# Altium schematic symbol library Transistor.SchLib: 34 symbols
Pins are listed as number, name and electrical type; pins without a type are passive.

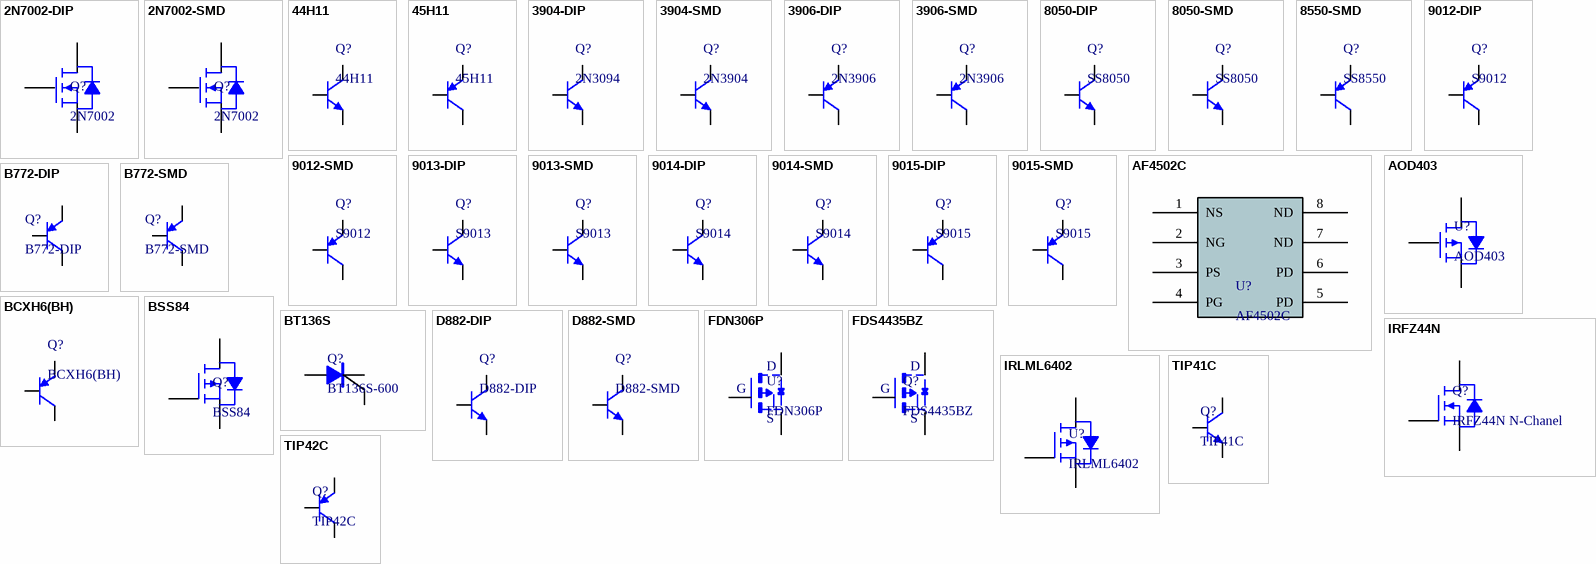
[diagram p0: symbols 2N7002-DIP to TIP42C]

## 2N7002-DIP
designator Q?, comment 2N7002
N-Channel Enhancement Mode Field Effect Transistor
footprint TO92A (92�����)
footprint TO92B (92�����)
pins: 1 S, 2 G, 3 D

## 2N7002-SMD
designator Q?, comment 2N7002
N-Channel Enhancement Mode Field Effect Transistor
footprint SOT23-3L (3x1.3x1mm(�����))
footprint SOT23-3M (3x1.3x1mm(�����))
footprint SOT23-3N (3x1.3x1mm(�����))
pins: 1 G, 2 S, 3 D

## 44H11
designator Q?
Complementary power-NPN; BOM名称: 互补功率-NPN型; 版权归属: 源创客; 属性: 80V 8A 50W; 学习资源: www.ooocke.com
footprint TO252 (252晶体管)
footprint TO251A (251，3脚晶体管)
footprint TO251B (251，3脚晶体管)
pins: 1 B, 2 C, 3 E

## 45H11
designator Q?
Complementary power-PNP; BOM名称: 互补功率-PNP型; 版权归属: 源创客; 属性: 80V 8A 50W; 学习资源: www.ooocke.com
footprint TO252 (252晶体管)
footprint TO251A (251，3脚晶体管)
footprint TO251B (251，3脚晶体管)
pins: 1 B, 2 C, 3 E

## 3904-DIP
designator Q?, comment 2N3094
High frequency amplification-NPN; BOM名称: 高频放大-NPN型; 版权归属: 源创客; 属性: 40V 1.5A 1W 100MHZ; 学习资源: www.ooocke.com
footprint TO92A (92晶体管)
footprint TO92B (92晶体管)
pins: 1 E, 2 B, 3 C

## 3904-SMD
designator Q?, comment 2N3904
High frequency amplification-NPN; BOM名称: 高频放大-NPN型; 版权归属: 源创客; 属性: 40V 1.5A 1W 100MHZ; 学习资源: www.ooocke.com
footprint SOT23-3N (3x1.3x1mm(长宽高))
footprint SOT23-3L (3x1.3x1mm(长宽高))
footprint SOT23-3M (3x1.3x1mm(长宽高))
pins: 1 B, 2 E, 3 C

## 3906-DIP
designator Q?, comment 2N3906
High Frequency Amplifier-PNP; BOM名称: 高频放大-PNP型; 版权归属: 源创客; 属性: 40V 1.5A 1W 100MHZ; 学习资源: www.ooocke.com
footprint TO92A (92晶体管)
footprint TO92B (92晶体管)
pins: 1 E, 2 B, 3 C

## 3906-SMD
designator Q?, comment 2N3906
High Frequency Amplifier-PNP; BOM名称: 高频放大-PNP型; 版权归属: 源创客; 属性: 40V 1.5A 1W 100MHZ; 学习资源: www.ooocke.com
footprint SOT23-3N (3x1.3x1mm(长宽高))
footprint SOT23-3L (3x1.3x1mm(长宽高))
footprint SOT23-3M (3x1.3x1mm(长宽高))
pins: 1 B, 2 E, 3 C

## 8050-DIP
designator Q?, comment SS8050
High frequency amplification-NPN; BOM名称: 高频放大-NPN型; 版权归属: 源创客; 属性: 40V 1.5A 1W 100MHZ; 学习资源: www.ooocke.com
footprint TO92A (92晶体管)
footprint TO92B (92晶体管)
pins: 1 E, 2 B, 3 C

## 8050-SMD
designator Q?, comment SS8050
High frequency amplification-NPN; BOM名称: 高频放大-NPN型; 版权归属: 源创客; 属性: 40V 1.5A 1W 100MHZ; 学习资源: www.ooocke.com
footprint SOT23-3N (3x1.3x1mm(长宽高))
footprint SOT23-3L (3x1.3x1mm(长宽高))
footprint SOT23-3M (3x1.3x1mm(长宽高))
pins: 1 B, 2 E, 3 C

## 8550-SMD
designator Q?, comment SS8550
High Frequency Amplifier-PNP; BOM名称: 高频放大-PNP型; 版权归属: 源创客; 属性: 40V 1.5A 1W 100MHZ; 学习资源: www.ooocke.com
footprint SOT23-3N (3x1.3x1mm(长宽高))
footprint SOT23-3L (3x1.3x1mm(长宽高))
footprint SOT23-3M (3x1.3x1mm(长宽高))
pins: 1 B, 2 E, 3 C

## 9012-DIP
designator Q?, comment S9012
High Frequency Amplifier-PNP; BOM名称: 低频放大-PNP型; 版权归属: 源创客; 属性: 50V 0.5A 0.625W; 学习资源: www.ooocke.com
footprint TO92A (92晶体管)
footprint TO92B (92晶体管)
pins: 1 E, 2 B, 3 C

## 9012-SMD
designator Q?, comment S9012
High Frequency Amplifier-PNP; BOM名称: 低频放大-PNP型; 版权归属: 源创客; 属性: 50V 0.5A 0.625W; 学习资源: www.ooocke.com
footprint SOT23-3N (3x1.3x1mm(长宽高))
footprint SOT23-3L (3x1.3x1mm(长宽高))
footprint SOT23-3M (3x1.3x1mm(长宽高))
pins: 1 B, 2 E, 3 C

## 9013-DIP
designator Q?, comment S9013
High frequency amplification-NPN; BOM名称: 低频放大-NPN型; 版权归属: 源创客; 属性: 50V 0.5A 0.625W; 学习资源: www.ooocke.com
footprint TO92A (92晶体管)
footprint TO92B (92晶体管)
pins: 1 E, 2 B, 3 C

## 9013-SMD
designator Q?, comment S9013
High frequency amplification-NPN; BOM名称: 低频放大-NPN型; 版权归属: 源创客; 属性: 50V 0.5A 0.625W; 学习资源: www.ooocke.com
footprint SOT23-3N (3x1.3x1mm(长宽高))
footprint SOT23-3L (3x1.3x1mm(长宽高))
footprint SOT23-3M (3x1.3x1mm(长宽高))
pins: 1 B, 2 E, 3 C

## 9014-DIP
designator Q?, comment S9014
High frequency amplification-NPN; BOM名称: 低噪放大-NPN型; 版权归属: 源创客; 属性: 50V 0.1A 0.4W 150MHZ; 学习资源: www.ooocke.com
footprint TO92A (92晶体管)
footprint TO92B (92晶体管)
pins: 1 E, 2 B, 3 C

## 9014-SMD
designator Q?, comment S9014
High frequency amplification-NPN; BOM名称: 低噪放大-NPN型; 版权归属: 源创客; 属性: 50V 0.1A 0.4W 150MHZ; 学习资源: www.ooocke.com
footprint SOT23-3N (3x1.3x1mm(长宽高))
footprint SOT23-3L (3x1.3x1mm(长宽高))
footprint SOT23-3M (3x1.3x1mm(长宽高))
pins: 1 B, 2 E, 3 C

## 9015-DIP
designator Q?, comment S9015
Low Noise Amplifier-PNP; BOM名称: 低噪放大-PNP型; 版权归属: 源创客; 属性: 50V 0.1A 0.4W 150MHZ; 学习资源: www.ooocke.com
footprint TO92A (92晶体管)
footprint TO92B (92晶体管)
pins: 1 E, 2 B, 3 C

## 9015-SMD
designator Q?, comment S9015
Low Noise Amplifier-PNP; BOM名称: 低噪放大-PNP型; 版权归属: 源创客; 属性: 50V 0.1A 0.4W 150MHZ; 学习资源: www.ooocke.com
footprint SOT23-3N (3x1.3x1mm(长宽高))
footprint SOT23-3L (3x1.3x1mm(长宽高))
footprint SOT23-3M (3x1.3x1mm(长宽高))
pins: 1 B, 2 E, 3 C

## AF4502C
designator U?
PN-Mosfet
footprint SOP8_L (5*6*1.8mm£¨³¤¿í¸ß£©)
footprint SOP8_M (5*6*1.8mm£¨³¤¿í¸ß£©)
footprint SOP8_N (5*6*1.8mm£¨³¤¿í¸ß£©)
pins: 1 NS, 2 NG, 3 PS, 4 PG, 5 PD, 6 PD, 7 ND, 8 ND

## AOD403
designator U?
footprint TO252 (252¾§Ìå¹Ü)
pins: 1 G, 2 D, 3 S

## B772-DIP
designator Q?
Audio Amplifier-PNP; BOM名称: 音频功放-PNP型; 版权归属: 源创客; 属性: 40V 3A 10W; 学习资源: www.ooocke.com
footprint TO126 (126晶体管)
pins: 1 E, 2 C, 3 B

## B772-SMD
designator Q?
Audio Amplifier-PNP; BOM名称: 音频功放-PNP型; 版权归属: 源创客; 属性: 40V 3A 10W; 学习资源: www.ooocke.com
footprint SOT89_N (4.6x4.3x1.6mm(长宽高))
footprint SOT89_M (4.6x4.3x1.6mm(长宽高))
footprint SOT89_L (4.6x4.3x1.6mm(长宽高))
pins: 1 B, 2 C, 3 E

## BCXH6(BH)
designator Q?
NPN Triode; BOM名称: NPN型三极管; 版权归属: 源创客; 学习资源: www.ooocke.com
footprint SOT89_N (4.6x4.3x1.6mm(长宽高))
footprint SOT89_L (4.6x4.3x1.6mm(长宽高))
footprint SOT89_M (4.6x4.3x1.6mm(长宽高))
pins: 1 B, 2 C, 3 E

## BSS84
designator Q?
P-Channel Enhancement Mode Field-Effect Transistor
footprint SOT23-3L (3x1.3x1mm(�����))
footprint SOT23-3M (3x1.3x1mm(�����))
footprint SOT23-3N (3x1.3x1mm(�����))
pins: 1 G, 2 S, 3 D

## BT136S
designator Q?, comment BT136S-600
footprint TO252 (252¾§جه¹ـ)
pins: 1 A, 2 K, 3 G

## D882-DIP
designator Q?
Audio Amplifier-NPN; BOM名称: 音频功放-NPN型; 版权归属: 源创客; 属性: 40V 3A 30W; 学习资源: www.ooocke.com
footprint TO126 (126晶体管)
pins: 1 E, 2 C, 3 B

## D882-SMD
designator Q?
Audio Amplifier-NPN; BOM名称: 音频功放-NPN型; 版权归属: 源创客; 属性: 40V 3A 30W; 学习资源: www.ooocke.com
footprint SOT89_N (4.6x4.3x1.6mm(长宽高))
footprint SOT89_L (4.6x4.3x1.6mm(长宽高))
footprint SOT89_M (4.6x4.3x1.6mm(长宽高))
pins: 1 B, 2 C, 3 E

## FDN306P
designator U?
footprint SOT23-3N (3x1.3x1mm(ï¿½ï¿½ï¿½ï¿½ï¿½))
footprint SOT23-3L (3x1.3x1mm(ï¿½ï¿½ï¿½ï¿½ï¿½))
footprint SOT23-3M (3x1.3x1mm(ï¿½ï¿½ï¿½ï¿½ï¿½))
pins: 1 G, 2 S, 3 D

## FDS4435BZ
designator Q?
footprint SOP8-E3
pins: 1-3 S, 4 G, 5-8 D

## IRFZ44N
designator Q?, comment IRFZ44N N-Chanel
footprint TO252 (252¾§جه¹ـ)
footprint TO263-3B (263£¬3½إ¾§جه¹ـ)
pins: 1 G, 2 D, 3 S

## IRLML6402
designator U?
P-Channel
footprint SOT23-3L (3x1.3x1mm(ï¿½ï¿½ï¿½ï¿½ï¿½))
footprint SOT23-3M (3x1.3x1mm(ï¿½ï¿½ï¿½ï¿½ï¿½))
footprint SOT23-3N (3x1.3x1mm(ï¿½ï¿½ï¿½ï¿½ï¿½))
pins: 1 G, 2 S, 3 D

## TIP41C
designator Q?
NPN power transistor; 放大倍数: 30-75
footprint TO220A (220，3脚晶体管)
footprint TO220B (220，3脚晶体管)
pins: 1 B, 2 C, 3 E

## TIP42C
designator Q?
PNP power transistor
footprint TO220A (220，3脚晶体管)
footprint TO220B (220，3脚晶体管)
pins: 1 B, 2 C, 3 E